# EAGLE library part TPS563200DDCR (library _TPS563200_export)
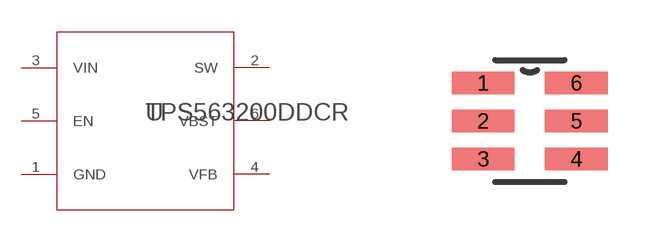
[diagram p0: symbol with the pads of DDC0006A; footprint DDC0006A]

Designator prefix U

## TPS563200DDCR (ADDRESS1: Not shown in title block; ADDRESS2: Not shown in title block; ADDRESS3: Not shown in title block; ADDRESS4: Not shown in title block; ALTERNATEMANUFACTURER: None; APPROVEDBY: Not shown in title block; AUTHOR: Not shown in title block; CHECKEDBY: Not shown in title block; COMPANYNAME: Not shown in title block; COMPONENTLINK1DESCRIPTION: Datasheet Link; COMPONENTLINK1URL: httpssps06.itg.ti.comsitesKMScrossdivteamsaltiumdocsComponentDatasheetsTPS56320xDDC_Users_Guide_v0p1_14_0203.pdf; COMPTYPE: IC; CURRENTDATE: Not shown in title block; CURRENTTIME: Not shown in title block; DATE: Not shown in title block; DESIGNATOR: U?; DOCUMENTFULLPATHANDNAME: Not shown in title block; DOCUMENTNAME: Not shown in title block; DOCUMENTNUMBER: 1; ENGINEER: Not shown in title block; IMAGEPATH: Not shown in title block; LATESTREVISIONDATE: 20140414; MANUFACTURER: Texas Instruments; MANUFACTURER_NAME: Texas Instruments; MANUFACTURER_PART_NUMBER: TPS563200DDCR; MODIFIEDDATE: Not shown in title block; MOUNTTYPE: SMT; ORGANIZATION: Not shown in title block; PACKAGEREFERENCE: DDC0006A; PARTNUMBER: TPS563200DDC; PIN_COUNT: 6; PROJECTNAME: *; PUBLISHER: Texas Instruments; REVISION: Use project parameter SCH_Rev; ROHS: Y; RULE: *; SHEETNUMBER: 1; SHEETTOTAL: 1; SYMBOLCREATOR: a0411947; SYMBOLVERSION: 20140411; TIME: Not shown in title block; UM: EA)  [DDC0006A]
1  GND  pwr
2  SW  pwr
3  VIN  pwr
4  VFB  in
5  EN  in
6  VBST  pwr

## Footprint DDC0006A (pad centres in mm)
smd 1.575 x 0.559: 1 -1.168,0.95; 2 -1.168,0; 3 -1.168,-0.95; 4 1.168,-0.95; 5 1.168,0; 6 1.168,0.95